# Altium footprint library TLP129.PcbLib: 1 footprints
Each footprint in its own frame and in the unit in brackets; x right, y up, seen from the top. Pads: shape width x height; smd on the part's side, far side on the other; paste and mask are expansions set on the pad; w line width, h text height; cw(c..) or ccw(c..) is an arc to the next point about the centre after c.
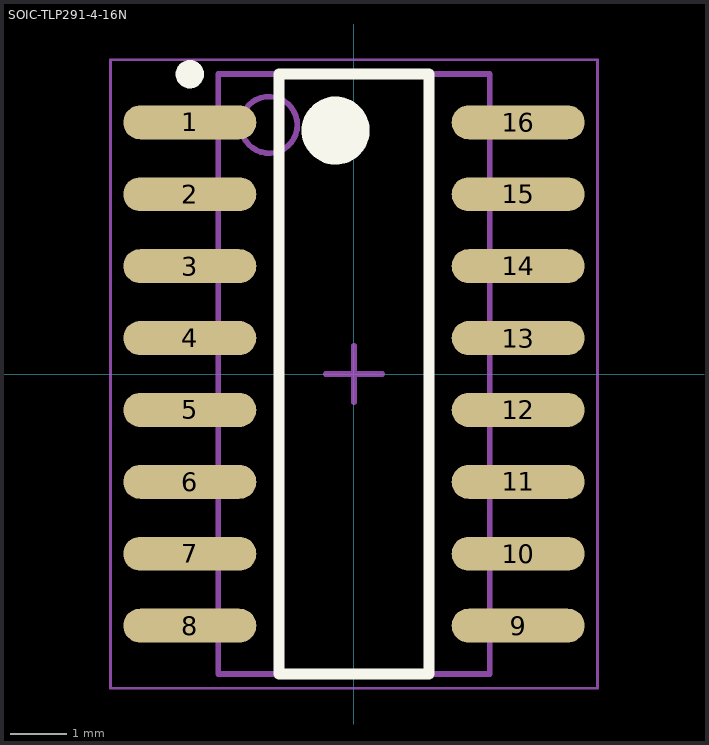
[diagram p0: the footprint, top view; thin cyan lines are the x and y axes]

## SOIC-TLP291-4-16N [mm] "SOIC, 16-Leads, Body 10.35x4.60mm, Pitch 1.27mm, IPC Medium Density"
height 2.1
pads (16):
  oval 2.35x0.6 smd: 1(-2.9,4.445) 2(-2.9,3.175) 3(-2.9,1.905) 4(-2.9,0.635) 5(-2.9,-0.635) 6(-2.9,-1.905) 7(-2.9,-3.175) 8(-2.9,-4.445) 9(2.9,-4.445) 10(2.9,-3.175) 11(2.9,-1.905) 12(2.9,-0.635) 13(2.9,0.635) 14(2.9,1.905) 15(2.9,3.175) 16(2.9,4.445)
Top Overlay:
  circle w0.25: c-2.9,5.295 r0.125
  circle w0.6: c-0.325,4.3 r0.3
  lines w0.2: -1.325,-5.3 -1.325,5.3 1.325,5.3 1.325,-5.3 -1.325,-5.3
Mechanical 13:
  circle w0.1: c-1.5,4.4 r0.5
  lines w0.1: -2.4,-5.3 -2.4,5.3 2.4,5.3 2.4,-5.3 -2.4,-5.3
Mechanical 15:
  lines w0.05: -4.3,-5.55 -4.3,5.55 4.3,5.55 4.3,-5.55 -4.3,-5.55
  lines w0.1: -0.5,0 0.5,0 ; 0,-0.5 0,0.5
3D body: height 2.1, standoff 0.1, extent -2.4,-5.3 2.4,5.3